# EAGLE library part DF50A-10P-1H(51) (library h8-conector)
Conn Shrouded Header HDR 10 POS 1mm Solder RA SMD T/R Created by SnapEDA https://www.snapeda.com/parts/DF50A-10P-1H%2851%29/Hirose%20Electric%20Co%20Ltd/view-part/?ref=dk&t=DF50A-10P-1H
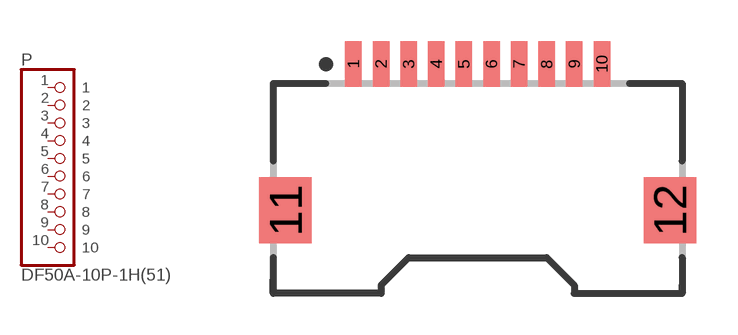
[diagram p6: symbol with the pads of HRS_DF50A-10P-1H(51); footprint HRS_DF50A-10P-1H(51)]

Designator prefix P

## DF50A-10P-1H(51) (DESCRIPTION: Conn Shrouded Header HDR 10 POS 1mm Solder RA SMD T/R; DIGI-KEY_PART_NUMBER: H12055CT-ND; DIGI-KEY_PURCHASE_URL: https://www.digikey.de/product-detail/en/hirose-electric-co-ltd/DF50A-10P-1H(51)/H12055CT-ND/3465319?WT.z_cid=ref_snapeda&utm_source=snapeda&utm_medium=aggregator&utm_campaign=buynow; MF: Hirose; MP: DF50A-10P-1H(51); PACKAGE: None)  [HRS_DF50A-10P-1H(51)]
1  1  pas
2  2  pas
3  3  pas
4  4  pas
5  5  pas
6  6  pas
7  7  pas
8  8  pas
9  9  pas
10  10  pas

## Footprint HRS_DF50A-10P-1H(51) (pad centres in mm)
smd 0.6 x 1.64: 1 -4.5,4.5; 2 -3.5,4.5; 3 -2.5,4.5; 4 -1.5,4.5; 5 -0.5,4.5; 6 0.5,4.5; 7 1.5,4.5; 8 2.5,4.5; 9 3.5,4.5; 10 4.5,4.5
smd 1.9 x 2.4: 11 -6.96,-0.79; 12 6.96,-0.79